# Altium schematic symbol library PS1440P02BT.SchLib: 2 symbols
Pins are listed as number, name and electrical type; pins without a type are passive.

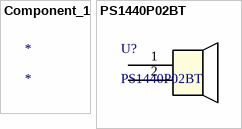
[diagram p0: symbols Component_1 to PS1440P02BT]

## Component_1
designator *

## PS1440P02BT
designator U?
No Description Available; Mfr_Name: TDK; Copyright: Copyright (C) 2023 Ultra Librarian. All rights reserved.; Manufacturer_Part_Number: PS1440P02BT; RefDes: RefDes; Type: DEV
footprint PS1440P02BT_TDK
pins: 1, 2